# Altium footprint library QFN.PcbLib: 8 footprints
Each footprint in its own frame and in the unit in brackets; x right, y up, seen from the top. Pads: shape width x height; smd on the part's side, far side on the other; paste and mask are expansions set on the pad; w line width, h text height; cw(c..) or ccw(c..) is an arc to the next point about the centre after c.
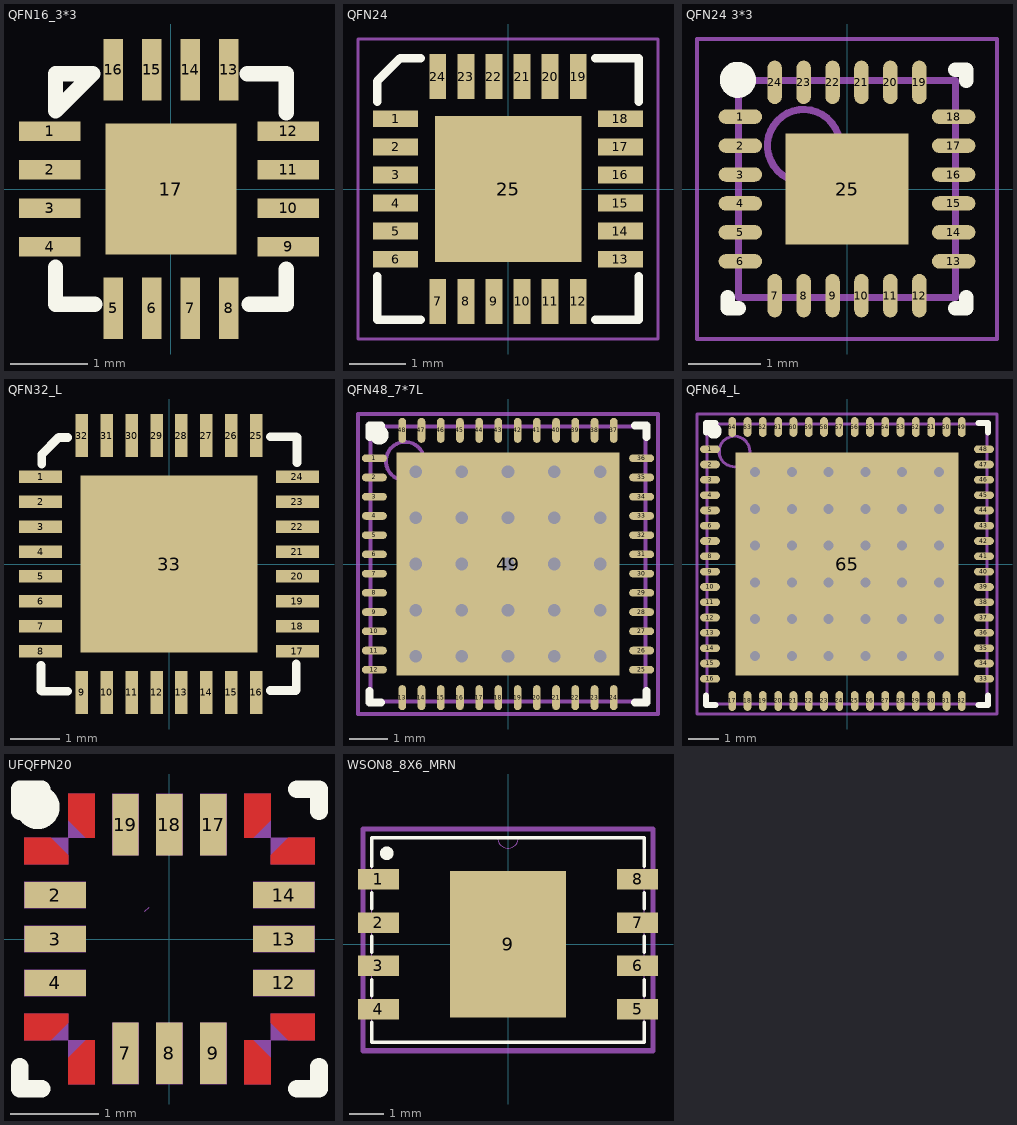
[diagram p0: the footprints below, top view; thin cyan lines are the x and y axes]

## QFN16_3*3 [mm] "QFN, 16-Leads, Body 3.0x3.0mm (max), Pitch 0.50mm, IPC Low Density"
height 3
pads (17):
  rect 0.8x0.25 smd: 1(-1.575,0.75) 2(-1.575,0.25) 3(-1.575,-0.25) 4(-1.575,-0.75) 9(1.524,-0.75) 10(1.524,-0.25) 11(1.524,0.25) 12(1.524,0.75)
  rect 0.25x0.8 smd: 5(-0.75,-1.55) 6(-0.25,-1.55) 7(0.25,-1.55) 8(0.75,-1.55) 13(0.75,1.55) 14(0.25,1.55) 15(-0.25,1.55) 16(-0.75,1.55)
  rect 1.7x1.7 smd: 17(0,0)
Top Overlay:
  lines w0.2: -1.5,-1.015 -1.5,-1.5 -0.989,-1.5 ; 0.989,1.5 1.5,1.5 1.5,0.989 ; 1.016,-1.5 1.5,-1.5 1.5,-1.041 ; -1.5,1.016 -1.5,1.5 -1.016,1.5 -1.5,1.016
3D body "QFN-16_3x3.STEP": height 0.9, standoff 0, extent -1.549,-1.521 1.493,1.521

## QFN24 [mm]
pads (25):
  rect 0.8x0.3 smd: 1(-2,1.25) 2(-2,0.75) 3(-2,0.25) 4(-2,-0.25) 5(-2,-0.75) 6(-2,-1.25) 13(2,-1.25) 14(2,-0.75) 15(2,-0.25) 16(2,0.25) 17(2,0.75) 18(2,1.25)
  rect 0.3x0.8 smd: 7(-1.25,-2) 8(-0.75,-2) 9(-0.25,-2) 10(0.25,-2) 11(0.75,-2) 12(1.25,-2) 19(1.25,2) 20(0.75,2) 21(0.25,2) 22(-0.25,2) 23(-0.75,2) 24(-1.25,2)
  rect 2.6x2.6 smd: 25(0.005,0)
Top Overlay:
  lines w0.15: -2.325,-1.55 -2.325,-2.325 -1.55,-2.325 ; -2.325,1.55 -2.325,1.917 -1.917,2.325 -1.55,2.325 ; 1.55,-2.325 2.325,-2.325 2.325,-1.55 ; 1.55,2.325 2.325,2.325 2.325,1.55
Mechanical 15:
  lines w0.05: -2.667,-2.667 2.667,-2.667 2.667,2.667 -2.667,2.667 -2.667,-2.667
3D body "User Library-QFN24_4x4.STEP": height 1, standoff 0, extent -2.01,-2.01 2.01,2.01

## QFN24 3*3 [mm] "QFN, 24-Leads, Body 3.00x3.00mm, Pitch 0.40mm, Thermal Pad 1.54x1.70mm, IPC Medium Density"
height 1
pads (25):
  oval 0.6x0.2 smd: 1(-1.475,1) 2(-1.475,0.6) 3(-1.475,0.2) 4(-1.475,-0.2) 5(-1.475,-0.6) 6(-1.475,-1) 13(1.475,-1) 14(1.475,-0.6) 15(1.475,-0.2) 16(1.475,0.2) 17(1.475,0.6) 18(1.475,1)
  oval 0.2x0.6 smd: 7(-1,-1.475) 8(-0.6,-1.475) 9(-0.2,-1.475) 10(0.2,-1.475) 11(0.6,-1.475) 12(1,-1.475) 19(1,1.475) 20(0.6,1.475) 21(0.2,1.475) 22(-0.2,1.475) 23(-0.6,1.475) 24(-1,1.475)
  rect 1.7x1.54 smd: 25(0,0)
Top Overlay:
  circle w0.25: c-1.51,1.51 r0.125
  lines w0.2: -1.65,-1.5 -1.65,-1.65 -1.5,-1.65 ; 1.5,-1.65 1.65,-1.65 1.65,-1.5 ; 1.5,1.65 1.65,1.65 1.65,1.5
Mechanical 13:
  circle w0.1: c-0.6,0.6 r0.5
  lines w0.1: -1.5,-1.5 -1.5,1.5 1.5,1.5 1.5,-1.5 -1.5,-1.5
Mechanical 15:
  lines w0.05: -2.075,-2.075 -2.075,2.075 2.075,2.075 2.075,-2.075 -2.075,-2.075
  lines w0.1: -0.5,0 0.5,0 ; 0,-0.5 0,0.5
3D body "User Library-MPU9250.step": height 1.03, standoff -0.02, extent -1.51,-1.51 1.51,1.51

## QFN32_L [mil]
pads (33):
  rect 34x9.84 smd: 1(-101.5,68.92) 2(-101.5,49.23) 3(-101.5,29.54) 4(-101.5,9.85) 5(-101.5,-9.85) 6(-101.5,-29.54) 7(-101.5,-49.23) 8(-101.5,-68.92) 17(101.5,-68.92) 18(101.5,-49.23) 19(101.5,-29.54) 20(101.5,-9.85) 21(101.5,9.85) 22(101.5,29.54) 23(101.5,49.23) 24(101.5,68.92)
  rect 9.84x34 smd: 9(-68.92,-101.5) 10(-49.23,-101.5) 11(-29.54,-101.5) 12(-9.85,-101.5) 13(9.85,-101.5) 14(29.54,-101.5) 15(49.23,-101.5) 16(68.92,-101.5) 25(68.92,101.5) 26(49.23,101.5) 27(29.54,101.5) 28(9.85,101.5) 29(-9.85,101.5) 30(-29.54,101.5) 31(-49.23,101.5) 32(-68.92,101.5)
  rect 140x140 smd: 33(0,0)
Top Overlay:
  lines w7: -101,-80 -101,-100 -100.5,-100.5 -80,-100.5 ; -100.5,79 -100.5,86.5 -87,100 -80,100 ; 80,-100 100,-100 100.5,-99.5 100.5,-79 ; 80,100.5 100.5,100.5 101,100 101,80
3D body "qfn32-5x5.step": height 31.5, standoff 0, extent -98.2,-98.81 99.44,98.82

## QFN48_7*7L [mm] "QFN, 48-Leads, Body 7x7mm, Pitch 0.5mm, IPC High Density"
height 0.9
pads (49):
  oval 0.65x0.2 smd: 1(-3.475,2.75) 2(-3.475,2.25) 3(-3.475,1.75) 4(-3.475,1.25) 5(-3.475,0.75) 6(-3.475,0.25) 7(-3.475,-0.25) 8(-3.475,-0.75) 9(-3.475,-1.25) 10(-3.475,-1.75) 11(-3.475,-2.25) 12(-3.475,-2.75) 25(3.475,-2.75) 26(3.475,-2.25) 27(3.475,-1.75) 28(3.475,-1.25) 29(3.475,-0.75) 30(3.475,-0.25) 31(3.475,0.25) 32(3.475,0.75) 33(3.475,1.25) 34(3.475,1.75) 35(3.475,2.25) 36(3.475,2.75)
  oval 0.2x0.65 smd: 13(-2.75,-3.475) 14(-2.25,-3.475) 15(-1.75,-3.475) 16(-1.25,-3.475) 17(-0.75,-3.475) 18(-0.25,-3.475) 19(0.25,-3.475) 20(0.75,-3.475) 21(1.25,-3.475) 22(1.75,-3.475) 23(2.25,-3.475) 24(2.75,-3.475) 37(2.75,3.475) 38(2.25,3.475) 39(1.75,3.475) 40(1.25,3.475) 41(0.75,3.475) 42(0.25,3.475) 43(-0.25,3.475) 44(-0.75,3.475) 45(-1.25,3.475) 46(-1.75,3.475) 47(-2.25,3.475) 48(-2.75,3.475)
  rect 5.8x5.8 smd: 49(0,0)
via 2.4,-2.4 diameter 0.66 hole 0.33
via 1.2,-2.4 diameter 0.66 hole 0.33
via 0,-2.4 diameter 0.66 hole 0.33
via -1.2,-2.4 diameter 0.66 hole 0.33
via -2.4,-2.4 diameter 0.66 hole 0.33
via 2.4,-1.2 diameter 0.66 hole 0.33
via 1.2,-1.2 diameter 0.66 hole 0.33
via 0,-1.2 diameter 0.66 hole 0.33
via -1.2,-1.2 diameter 0.66 hole 0.33
via -2.4,-1.2 diameter 0.66 hole 0.33
via 2.4,0 diameter 0.66 hole 0.33
via 1.2,0 diameter 0.66 hole 0.33
via 0,0 diameter 0.66 hole 0.33
via -1.2,0 diameter 0.66 hole 0.33
via -2.4,0 diameter 0.66 hole 0.33
via 2.4,1.2 diameter 0.66 hole 0.33
via 1.2,1.2 diameter 0.66 hole 0.33
via 0,1.2 diameter 0.66 hole 0.33
via -1.2,1.2 diameter 0.66 hole 0.33
via -2.4,1.2 diameter 0.66 hole 0.33
via 2.4,2.4 diameter 0.66 hole 0.33
via 1.2,2.4 diameter 0.66 hole 0.33
via 0,2.4 diameter 0.66 hole 0.33
via -1.2,2.4 diameter 0.66 hole 0.33
via -2.4,2.4 diameter 0.66 hole 0.33
Top Overlay:
  circle w0.25: c-3.353,3.353 r0.125
  lines w0.2: -3.6,-3.3 -3.6,-3.6 -3.3,-3.6 ; -3.6,3.3 -3.6,3.6 -3.3,3.6 ; 3.3,-3.6 3.6,-3.6 3.6,-3.3 ; 3.3,3.6 3.6,3.6 3.6,3.3
Mechanical 13:
  circle w0.1: c-2.675,2.675 r0.5
  lines w0.1: -3.575,-3.575 3.575,-3.575 3.575,3.575 -3.575,3.575 -3.575,-3.575
Mechanical 15:
  lines w0.1: -0.5,0 0.5,0 ; 0,-0.5 0,0.5 ; -3.9,-3.9 3.9,-3.9 3.9,3.9 -3.9,3.9 -3.9,-3.9
3D body "QFN48 7x7.STEP": height 0.78, standoff -0.02, extent -3.51,-3.51 3.51,3.51

## QFN64_L [mm] "QFN, 64-Leads, Body 9x9mm, Pitch 0.5mm, IPC High Density"
height 1
pads (65):
  oval 0.65x0.25 smd: 1(-4.475,3.75) 2(-4.475,3.25) 3(-4.475,2.75) 4(-4.475,2.25) 5(-4.475,1.75) 6(-4.475,1.25) 7(-4.475,0.75) 8(-4.475,0.25) 9(-4.475,-0.25) 10(-4.475,-0.75) 11(-4.475,-1.25) 12(-4.475,-1.75) 13(-4.475,-2.25) 14(-4.475,-2.75) 15(-4.475,-3.25) 16(-4.475,-3.75) 33(4.475,-3.75) 34(4.475,-3.25) 35(4.475,-2.75) 36(4.475,-2.25) 37(4.475,-1.75) 38(4.475,-1.25) 39(4.475,-0.75) 40(4.475,-0.25) 41(4.475,0.25) 42(4.475,0.75) 43(4.475,1.25) 44(4.475,1.75) 45(4.475,2.25) 46(4.475,2.75) 47(4.475,3.25) 48(4.475,3.75)
  oval 0.25x0.65 smd: 17(-3.75,-4.475) 18(-3.25,-4.475) 19(-2.75,-4.475) 20(-2.25,-4.475) 21(-1.75,-4.475) 22(-1.25,-4.475) 23(-0.75,-4.475) 24(-0.25,-4.475) 25(0.25,-4.475) 26(0.75,-4.475) 27(1.25,-4.475) 28(1.75,-4.475) 29(2.25,-4.475) 30(2.75,-4.475) 31(3.25,-4.475) 32(3.75,-4.475) 49(3.75,4.475) 50(3.25,4.475) 51(2.75,4.475) 52(2.25,4.475) 53(1.75,4.475) 54(1.25,4.475) 55(0.75,4.475) 56(0.25,4.475) 57(-0.25,4.475) 58(-0.75,4.475) 59(-1.25,4.475) 60(-1.75,4.475) 61(-2.25,4.475) 62(-2.75,4.475) 63(-3.25,4.475) 64(-3.75,4.475)
  rect 7.3x7.3 smd: 65(0,0)
via 3,-3 diameter 0.66 hole 0.33
via 1.8,-3 diameter 0.66 hole 0.33
via 0.6,-3 diameter 0.66 hole 0.33
via -0.6,-3 diameter 0.66 hole 0.33
via -1.8,-3 diameter 0.66 hole 0.33
via -3,-3 diameter 0.66 hole 0.33
via 3,-1.8 diameter 0.66 hole 0.33
via 1.8,-1.8 diameter 0.66 hole 0.33
via 0.6,-1.8 diameter 0.66 hole 0.33
via -0.6,-1.8 diameter 0.66 hole 0.33
via -1.8,-1.8 diameter 0.66 hole 0.33
via -3,-1.8 diameter 0.66 hole 0.33
via 3,-0.6 diameter 0.66 hole 0.33
via 1.8,-0.6 diameter 0.66 hole 0.33
via 0.6,-0.6 diameter 0.66 hole 0.33
via -0.6,-0.6 diameter 0.66 hole 0.33
via -1.8,-0.6 diameter 0.66 hole 0.33
via -3,-0.6 diameter 0.66 hole 0.33
via 3,0.6 diameter 0.66 hole 0.33
via 1.8,0.6 diameter 0.66 hole 0.33
via 0.6,0.6 diameter 0.66 hole 0.33
via -0.6,0.6 diameter 0.66 hole 0.33
via -1.8,0.6 diameter 0.66 hole 0.33
via -3,0.6 diameter 0.66 hole 0.33
via 3,1.8 diameter 0.66 hole 0.33
via 1.8,1.8 diameter 0.66 hole 0.33
via 0.6,1.8 diameter 0.66 hole 0.33
via -0.6,1.8 diameter 0.66 hole 0.33
via -1.8,1.8 diameter 0.66 hole 0.33
via -3,1.8 diameter 0.66 hole 0.33
via 3,3 diameter 0.66 hole 0.33
via 1.8,3 diameter 0.66 hole 0.33
via 0.6,3 diameter 0.66 hole 0.33
via -0.6,3 diameter 0.66 hole 0.33
via -1.8,3 diameter 0.66 hole 0.33
via -3,3 diameter 0.66 hole 0.33
Top Overlay:
  circle w0.25: c-4.343,4.343 r0.125
  lines w0.2: -4.6,-4.3 -4.6,-4.6 -4.3,-4.6 ; -4.6,4.3 -4.6,4.6 -4.3,4.6 ; 4.3,-4.6 4.6,-4.6 4.6,-4.3 ; 4.3,4.6 4.6,4.6 4.6,4.3
Mechanical 13:
  circle w0.1: c-3.675,3.675 r0.5
  lines w0.1: -4.575,-4.575 4.575,-4.575 4.575,4.575 -4.575,4.575 -4.575,-4.575
Mechanical 15:
  lines w0.1: -0.5,0 0.5,0 ; 0,-0.5 0,0.5 ; -4.9,-4.9 4.9,-4.9 4.9,4.9 -4.9,4.9 -4.9,-4.9
3D body "User Library-QFN64-2.step": height 0.9, standoff 0, extent -4.52,-4.52 4.52,4.52

## UFQFPN20 [mm]
pads (12):
  rect 0.7x0.3 smd: 2(-1.3,0.5) 3(-1.3,0) 4(-1.3,-0.5) 12(1.3,-0.5) 13(1.3,0) 14(1.3,0.5)
  rect 0.3x0.7 smd: 7(-0.5,-1.3) 8(0,-1.3) 9(0.5,-1.3) 17(0.5,1.3) 18(0,1.3) 19(-0.5,1.3)
Top Layer:
  region: 1.15,-1.65 0.85,-1.65 0.85,-1.15 0.95,-1.15 1.15,-1.35
  region: -1.15,-1.65 -0.85,-1.65 -0.85,-1.15 -0.95,-1.15 -1.15,-1.35
  region: -1.65,-1.15 -1.65,-0.85 -1.15,-0.85 -1.15,-0.95 -1.35,-1.15
  region: 1.65,1.15 1.65,0.85 1.15,0.85 1.15,0.95 1.35,1.15
  region: -1.65,1.15 -1.65,0.85 -1.15,0.85 -1.15,0.95 -1.35,1.15
  region: 1.15,-0.85 1.15,-0.95 1.35,-1.15 1.65,-1.15 1.65,-0.85
  region: 0.85,1.65 0.85,1.15 0.95,1.15 1.15,1.35 1.15,1.65
  region: -1.15,1.65 -0.85,1.65 -0.85,1.15 -0.95,1.15 -1.15,1.35
Top Overlay:
  lines w0.2: -1.7,-1.45 -1.7,-1.7 -1.45,-1.7 ; -1.7,1.45 -1.7,1.7 -1.45,1.7 ; 1.45,-1.7 1.7,-1.7 1.7,-1.45 ; 1.45,1.7 1.7,1.7 1.7,1.45
  lines w0.25: -1.374,1.497 cw(c-1.499,1.499) -1.374,1.5
Top Paste:
  region: 1.15,-1.65 0.85,-1.65 0.85,-1.15 0.95,-1.15 1.15,-1.35
  region: -1.15,-1.65 -0.85,-1.65 -0.85,-1.15 -0.95,-1.15 -1.15,-1.35
  region: -1.65,-1.15 -1.65,-0.85 -1.15,-0.85 -1.15,-0.95 -1.35,-1.15
  region: 1.65,1.15 1.65,0.85 1.15,0.85 1.15,0.95 1.35,1.15
  region: -1.65,1.15 -1.65,0.85 -1.15,0.85 -1.15,0.95 -1.35,1.15
  region: 1.15,-0.85 1.15,-0.95 1.35,-1.15 1.65,-1.15 1.65,-0.85
  region: 0.85,1.65 0.85,1.15 0.95,1.15 1.15,1.35 1.15,1.65
  region: -1.15,1.65 -0.85,1.65 -0.85,1.15 -0.95,1.15 -1.15,1.35
  region: -1.15,0.85 -1.35,0.85 -1.35,1.15 -1.15,0.95
Top Solder:
  region: 1.15,-1.65 0.85,-1.65 0.85,-1.15 0.95,-1.15 1.15,-1.35
  region: -1.15,-1.65 -0.85,-1.65 -0.85,-1.15 -0.95,-1.15 -1.15,-1.35
  region: -1.65,-1.15 -1.65,-0.85 -1.15,-0.85 -1.15,-0.95 -1.35,-1.15
  region: 1.65,1.15 1.65,0.85 1.15,0.85 1.15,0.95 1.35,1.15
  region: -1.65,1.15 -1.65,0.85 -1.15,0.85 -1.15,0.95 -1.35,1.15
  region: 1.15,-0.85 1.15,-0.95 1.35,-1.15 1.65,-1.15 1.65,-0.85
  region: 0.85,1.65 0.85,1.15 0.95,1.15 1.15,1.35 1.15,1.65
  region: -1.15,1.65 -0.85,1.65 -0.85,1.15 -0.95,1.15 -1.15,1.35
  region: -1.325,1.21 -1.71,1.21 -1.71,0.79 -1.09,0.79 -1.09,0.975
Mechanical 5:
  region: 0.85,-1.15 1.15,-1.15 1.15,-1.65 0.85,-1.65
  region: -1.15,-1.15 -0.85,-1.15 -0.85,-1.65 -1.15,-1.65
  region: -1.65,-0.85 -1.15,-0.85 -1.15,-1.15 -1.65,-1.15
  region: 1.15,1.15 1.65,1.15 1.65,0.85 1.15,0.85
  region: -1.65,1.15 -1.15,1.15 -1.15,0.85 -1.65,0.85
  region: 1.15,-0.85 1.65,-0.85 1.65,-1.15 1.15,-1.15
  region: 0.85,1.65 1.15,1.65 1.15,1.15 0.85,1.15
  region: -1.15,1.65 -0.85,1.65 -0.85,1.15 -1.15,1.15
  region: -1.65,0.65 -0.95,0.65 -0.95,0.35 -1.65,0.35
  region: -1.65,0.15 -0.95,0.15 -0.95,-0.15 -1.65,-0.15
  region: -1.65,-0.35 -0.95,-0.35 -0.95,-0.65 -1.65,-0.65
  region: -0.65,-0.95 -0.35,-0.95 -0.35,-1.65 -0.65,-1.65
  region: -0.15,-0.95 0.15,-0.95 0.15,-1.65 -0.15,-1.65
  region: 0.35,-0.95 0.65,-0.95 0.65,-1.65 0.35,-1.65
  region: 0.95,-0.35 1.65,-0.35 1.65,-0.65 0.95,-0.65
  region: 0.95,0.15 1.65,0.15 1.65,-0.15 0.95,-0.15
  region: 0.95,0.65 1.65,0.65 1.65,0.35 0.95,0.35
  region: 0.35,1.65 0.65,1.65 0.65,0.95 0.35,0.95
  region: -0.15,1.65 0.15,1.65 0.15,0.95 -0.15,0.95
  region: -0.65,1.65 -0.35,1.65 -0.35,0.95 -0.65,0.95
Mechanical 15:
  lines w0.003: -0.281,0.313 -0.23,0.364
3D body "User Library-UFQFPN20-1.step": height 0.55, standoff 0, extent -1.5,-1.5 1.5,1.5

## WSON8_8X6_MRN [mm]
pads (9):
  rect 1.2x0.6 smd: 1(-3.8,1.905) 2(-3.8,0.635) 3(-3.8,-0.635) 4(-3.8,-1.905) 5(3.8,-1.905) 6(3.8,-0.635) 7(3.8,0.635) 8(3.8,1.905)
  rect 3.4x4.3 smd: 9(0,0)
Top Overlay:
  circle w0.2: c-3.556,2.667 r0.1
  lines w0.1: -4,-2.286 -4,-2.873 -3.863,-2.873 4,-2.873 4,-2.286 ; -4,-1.516 -4,-1.044 ; -4,-0.236 -4,0.236 ; -4,1.044 -4,1.516 ; -4,2.286 -4,3.127 4,3.127 4,2.286 ; 4,-1.516 4,-1.044 ; 4,-0.236 4,0.236 ; 4,1.044 4,1.516
Top Paste:
  region: -0.1,0.7 -1.189,0.7 -1.189,-0.7 -0.1,-0.7
  region: 1.189,0.7 0.1,0.7 0.1,-0.7 1.189,-0.7
Mechanical 13:
  lines w0: -0.305,3.124 ccw(c0,3.124) 0.305,3.124
  lines w0.025: -4,-2.87 4,-2.87 4,3.124 -4,3.124 -4,-2.87
Mechanical 15:
  lines w0.152: -4.255,-3.124 -4.255,-2.273 -4.255,2.527 -4.255,3.378 4.255,3.378 4.255,2.527 4.255,-2.273 4.255,-3.124 -4.255,-3.124
3D body "User Library-WSON-8_6x8mm.STEP": height 0.81, standoff -0.07, extent -4,-2.921 4,3.079